# Altium schematic symbol library Schlib.SchLib: 45 symbols
Pins are listed as number, name and electrical type; pins without a type are passive.

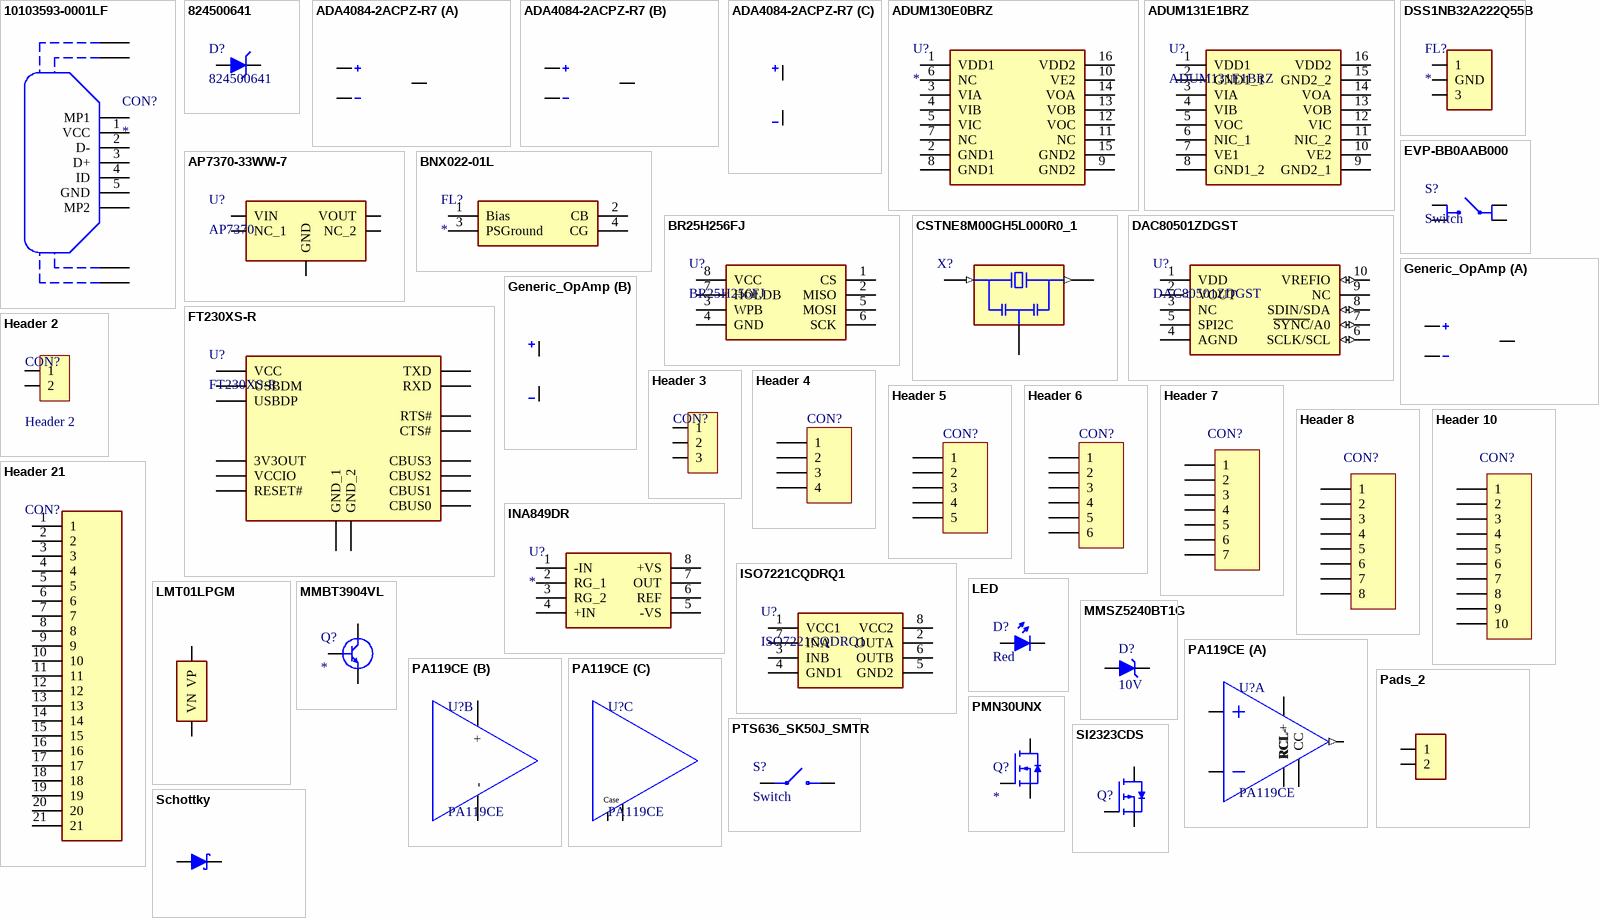
[diagram p0: symbols 10103593-0001LF to SI2323CDS]

## 10103593-0001LF
designator CON?
USB Connector; Manufacturer_Name: Amphenol; MPN: 10103593-0001LF; Datasheet Link: https://4donline.ihs.com/images/VipMasterIC/IC/FRCI/FRCIS73238/FRCIS73238-1.pdf?hkey=6D3A4C79FDBF58556ACFDE234799DDF0; Height: 3.24mm; Mouser Part Number: 649-10103593-0001LF; Mouser Price/Stock: https://www.mouser.co.uk/ProductDetail/Amphenol-FCI/10103593-0001LF/?qs=EnLMdcWnKAAYkpXwqGEfpw%3D%3D
footprint 101035930001LF
pins: 1 VCC, 2 D-, 3 D+, 4 ID, 5 GND, MH1, MH2, MH3, MH4, MP1, MP2

## 824500641
designator D?
TVS Diode; MPN: 824500641
footprint DIOM5127X250N
pins: 1 K, 2 A

## ADA4084-2ACPZ-R7
designator U?, comment ADA4084
Op Amp; MPN: ADA4084-2ACPZ-R7
footprint SON50P300X300X85-9N-D
part A pins: 1 OUT_A, 2 -IN_A, 3 +IN_A
part B pins: 5 +IN_B, 6 -IN_B, 7 OUT_B
part C pins: 4 V-, 8 V+

## ADUM130E0BRZ
designator U?
Digital isolator; MPN: ADUM130E0BRZ
footprint SOIC127P600X175-16N
pins: 1 VDD1, 2 GND1, 3 VIA, 4 VIB, 5 VIC, 6 NC, 7 NC, 8 GND1, 9 GND2, 10 VE2, 11 NC, 12 VOC, 13 VOB, 14 VOA, 15 GND2, 16 VDD2

## ADUM131E1BRZ
designator U?
Digital isolator; MPN: ADUM131E1BRZ
footprint SOIC127P600X175-16N
pins: 1 VDD1, 2 GND1_1, 3 VIA, 4 VIB, 5 VOC, 6 NIC_1, 7 VE1, 8 GND1_2, 9 GND2_1, 10 VE2, 11 NIC_2, 12 VIC, 13 VOB, 14 VOA, 15 GND2_2, 16 VDD2

## AP7370-33WW-7
designator U?, comment AP7370
Volatge Regulator 3V3; Manufacturer_Name: Diodes Inc.; MPN: AP7370-33WW-7; Datasheet Link: https://componentsearchengine.com/Datasheets/1/AP7370-33WW-7.pdf; Height: 1.4mm; Mouser Part Number: 621-AP7370-33WW-7; Mouser Price/Stock: https://www.mouser.co.uk/ProductDetail/Diodes-Incorporated/AP7370-33WW-7?qs=%252B6g0mu59x7LthBU4%252B8t%252BZQ%3D%3D; Arrow Part Number: AP7370-33WW-7; Arrow Price/Stock: https://www.arrow.com/en/products/ap7370-33ww-7/diodes-incorporated
footprint SOT95P285X140-5N
pins: 1 VIN, 2 GND, 3 VOUT, 4 NC_1, 5 NC_2

## BNX022-01L
designator FL?
EMI Filter; MPN: BNX022-01L
footprint BNX02201K
pins: 1 Bias, 2 CB, 3 PSGround, 4 CG

## BR25H256FJ
designator U?
EEPROM; Manufacturer_Name: ROHM Semiconductor; MPN: BR25H256FJ-2ACE2; Datasheet Link: https://ms.componentsearchengine.com/Datasheets/1/BR25H256FJ-2ACE2.pdf; Height: 1.65mm; Mouser Part Number: 755-BR25H256FJ-2ACE2; Mouser Price/Stock: https://www.mouser.co.uk/ProductDetail/ROHM-Semiconductor/BR25H256FJ-2ACE2?qs=zGux8KhMp6KpbA8DPfpjPg%3D%3D
footprint SOIC127P600X165-8N
pins: 1 CS, 2 MISO, 3 WPB, 4 GND, 5 MOSI, 6 SCK, 7 HOLDB, 8 VCC

## CSTNE8M00GH5L000R0_1
designator X?  (value not drawn)
8MHz Ceramic Resonator; MPN: CSTNE8M00GH5L000R0; MF: Murata Electronics; Value: 8MHz; Package: None
footprint OSC_CSTNE8M00GH5L000R0
pins: 1 IN (in), 2 GND (power), 3 OUT (out)

## DAC80501ZDGST
designator U?
DAC; Resolution: 16bit; MPN: DAC80501ZDGST
footprint SOP50P490X110-10N
pins: 1 VDD (power), 2 VOUT (out), 3 NC, 4 AGND (power), 5 SPI2C, 6 SCLK/SCL (io), 7 ~{SYNC}/A0 (io), 8 SDIN/SDA (io), 9 NC, 10 VREFIO (io)

## DSS1NB32A222Q55B
designator FL?
EMIFilter; MPN: DSS1NB32A222Q55B
footprint DSS1NB32A223Q91A
pins: 1, 2 GND, 3

## EVP-BB0AAB000
designator S?, comment Switch
MPN: EVP-BB0AAB000
footprint EVPBB0AAB000
pins: A1 NO_1, A2 NO_2, B1 COM_1, B2 COM_2

## FT230XS-R
designator U?
USB converter; Manufacturer_Name: FTDI Chip; Datasheet Link: http://www.ftdichip.com/Support/Documents/DataSheets/ICs/DS_FT230X.pdf; Height: 1.753mm; MPN: FT230XS-R; Mouser Part Number: 895-FT230XS-R; Mouser Price/Stock: https://www.mouser.co.uk/ProductDetail/FTDI/FT230XS-R?qs=Gp1Yz1mis3XyCLeYOseSng%3D%3D; Arrow Part Number: FT230XS-R; Arrow Price/Stock: http://www.arrow.com/en/products/ft230xs-r/ftdi-chip
footprint SOP64P599X175-16N
pins: 1 TXD, 2 RTS#, 3 VCCIO, 4 RXD, 5 GND_1, 6 CTS#, 7 CBUS2, 8 USBDP, 9 USBDM, 10 3V3OUT, 11 RESET#, 12 VCC, 13 GND_2, 14 CBUS1, 15 CBUS0, 16 CBUS3

## Generic_OpAmp
designator U?  (value not drawn)
Generic operational amplifier with supply voltage; Value: *; HelpURL: *; MPN: *
part A pins: 1 OUT_A, 2 -IN_A, 3 +IN_A
part B pins: 4 V-, 5 V+

## Header 2
designator CON?
Header, 2-Pin
pins: 1, 2

## Header 3
designator CON?  (value not drawn)
Header, 3-Pin; MPN: *
footprint HDR_1X3_2.54 (Header connector 2.54mm)
pins: 1, 2, 3

## Header 4
designator CON?  (value not drawn)
Header, 4-Pin; MPN: *
footprint HDR_1X4_2.54 (Header connector 2.54mm)
pins: 1, 2, 3, 4

## Header 5
designator CON?  (value not drawn)
Header, 5-Pin
pins: 1, 2, 3, 4, 5

## Header 6
designator CON?  (value not drawn)
Header, 6-Pin
pins: 1, 2, 3, 4, 5, 6

## Header 7
designator CON?  (value not drawn)
Header, 7-Pin
pins: 1, 2, 3, 4, 5, 6, 7

## Header 8
designator CON?  (value not drawn)
Header, 8-Pin
pins: 1, 2, 3, 4, 5, 6, 7, 8

## Header 10
designator CON?  (value not drawn)
Header, 10-Pin
pins: 1, 2, 3, 4, 5, 6, 7, 8, 9, 10

## Header 21
designator CON?  (value not drawn)
Header, 21-Pin; Manufacturer_Name: Amphenol; MPN: 68001-121HLF; Datasheet Link: http://docs-emea.rs-online.com/webdocs/1450/0900766b81450c45.pdf; Height: 8.58mm; Mouser Part Number: 649-68001-121HLF; Mouser Price/Stock: https://www.mouser.co.uk/ProductDetail/Amphenol-FCI/68001-121HLF/?qs=QKvFUfBIyQK%252BoxmWjqVzjQ%3D%3D; Arrow Part Number: 68001-121HLF; Arrow Price/Stock: https://www.arrow.com/en/products/68001-121hlf/amphenol-fci
footprint HDR_1X21_2.54 (Header connector 2.54mm)
pins: 1, 2, 3, 4, 5, 6, 7, 8, 9, 10, 11, 12, 13, 14, 15, 16, 17, 18, 19, 20, 21

## INA849DR
designator U?
Instrumental Amplifier; MPN: INA849DR
footprint SOIC127P600X175-8N
pins: 1 -IN, 2 RG_1, 3 RG_2, 4 +IN, 5 -VS, 6 REF, 7 OUT, 8 +VS

## ISO7221CQDRQ1
designator U?
Digital Isolator; MPN: ISO7221CQDRQ1
footprint SOIC127P600X175-8N (Footprint not found)
pins: 1 VCC1, 2 OUTA, 3 INB, 4 GND1, 5 GND2, 6 OUTB, 7 INA, 8 VCC2

## LED
designator D?, comment Red
LED; Colour: Red; MPN: *
footprint LED_0805 (LED diode, 0805, 599 Series)
footprint LED_0805_OUTLINE (LED diode, 0805, 599 Series)
pins: A, K

## LMT01LPGM
designator U?, comment Temp sensor
Temperature sensor, Pulse Train Interface; MPN: LMT01LPGM
footprint TO-92S (TI 2 Pin temp sensor)
pins: 1 VN, 2 VP

## MMBT3904VL
designator Q?
Transistor BJT NPN; MPN: MMBT3904VL
footprint SOT95P230X110-3N
pins: 1 B, 2 E, 3 C

## MMSZ5240BT1G
designator D?  Zener volatge: 10V  (hidden comment: *)
Zener Diode; MPN: MMSZ5240BT1G
footprint SOD3716X135N
pins: 1 K, 2 A

## PA119CE
designator U?
Op Amp; MPN: PA119CE
footprint PA119CE
part A pins: 1 OUT (out), 2 RCL+, 4 +IN, 5 -IN, 7 RCL-, 8 CC
part B pins: 3 +, 6 -
part C pins: MH1, MH2
part C text: Case

## Pads_2
designator PAD?  (no BOM)
2 Pads
footprint Pads_2 (2 Pads, hole 2mm)
pins: 1, 2

## PMN30UNX
designator Q?
Transistor MOSFET N-Channel; MPN: PMN30UNX
footprint SOT95P275X110-6N
pins: 1 D, 3 G, 4 S

## PTS636_SK50J_SMTR
designator S?, comment Switch
Manufacturer_Name: C & K COMPONENTS; MPN: PTS636 SK50J SMTR LFS; Datasheet Link: https://dznh3ojzb2azq.cloudfront.net/products/Tactile/PTS636/documents/datasheet.pdf; Height: 5mm; Mouser Part Number: 611-PTS636SK50JSMTRL; Mouser Price/Stock: https://www.mouser.co.uk/ProductDetail/CK/PTS636-SK50J-SMTR-LFS?qs=vLWxofP3U2y%2F9cEgatLecw%3D%3D
footprint PTS636SK50JSMTRLFS
pins: 1 COM, 2 NO

## Schottky
designator D?
Schottky diode; MPN: *
footprint SOD-123FL (Package 3.6x1.6)
pins: A, K

## SI2323CDS
designator Q?  (value not drawn)
P-MOSFET; MPN: SI2323CDS-T1-GE3
footprint SOT95P237X112-3N
pins: 1 G, 2 S, 3 D

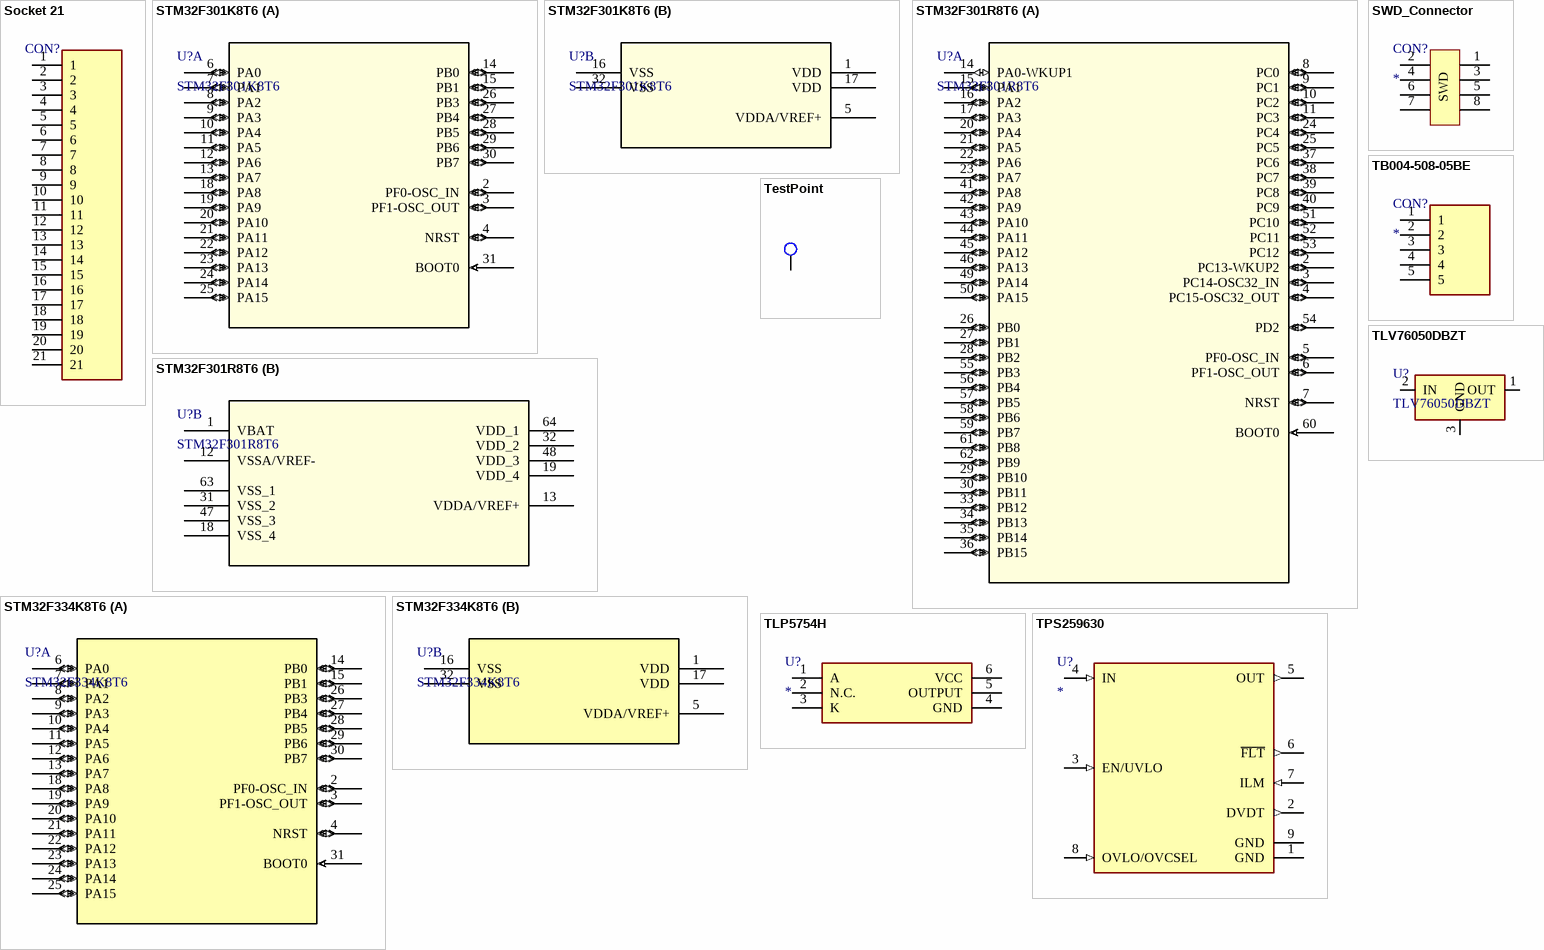
[diagram p1: symbols Socket 21 to TPS259630]

## Socket 21
designator CON?  (value not drawn)  (no BOM)
Socket, 21-Pin
footprint SOCKET_1X21_2.54 (Socket connector 2.54mm)
pins: 1, 2, 3, 4, 5, 6, 7, 8, 9, 10, 11, 12, 13, 14, 15, 16, 17, 18, 19, 20, 21

## STM32F301K8T6
designator U?
MCU; Vendor: STMicroelectronics; Built_By: EMA_UL_Team; SourceLibrary: Updates_to_database_2020-10-19; Manufacturer_Part_Number: STM32F301K8T6; Copyright: Copyright (C) 2018 Accelerated Designs. All rights reserved; RefDes: RefDes; Type: DEV
footprint LQFP-32
part A pins: 2 PF0-OSC_IN (io), 3 PF1-OSC_OUT (io), 4 NRST (io), 6 PA0 (io), 7 PA1 (io), 8 PA2 (io), 9 PA3 (io), 10 PA4 (io), 11 PA5 (io), 12 PA6 (io), 13 PA7 (io), 14 PB0 (io), 15 PB1 (io), 18 PA8 (io), 19 PA9 (io), 20 PA10 (io), 21 PA11 (io), 22 PA12 (io), 23 PA13 (io), 24 PA14 (io), 25 PA15 (io), 26 PB3 (io), 27 PB4 (io), 28 PB5 (io), 29 PB6 (io), 30 PB7 (io), 31 BOOT0 (in)
part B pins: 1 VDD (power), 5 VDDA/VREF+ (power), 16 VSS (power), 17 VDD (power), 32 VSS (power)

## STM32F301R8T6
designator U?
MCU LQFP64; Vendor: STMicroelectronics; Built_By: EMA_UL_Team; SourceLibrary: Updates_to_database_2020-10-19; MPN: STM32F301R8T6; Copyright: Copyright (C) 2018 Accelerated Designs. All rights reserved; RefDes: RefDes; Type: DEV
footprint LQFP64-10x10mm
part A pins: 2 PC13-WKUP2 (io), 3 PC14-OSC32_IN (io), 4 PC15-OSC32_OUT (io), 5 PF0-OSC_IN (io), 6 PF1-OSC_OUT (io), 7 NRST (io), 8 PC0 (io), 9 PC1 (io), 10 PC2 (io), 11 PC3 (io), 14 PA0-WKUP1 (io), 15 PA1 (io), 16 PA2 (io), 17 PA3 (io), 20 PA4 (io), 21 PA5 (io), 22 PA6 (io), 23 PA7 (io), 24 PC4 (io), 25 PC5 (io), 26 PB0 (io), 27 PB1 (io), 28 PB2 (io), 29 PB10 (io), 30 PB11 (io), 33 PB12 (io), 34 PB13 (io), 35 PB14 (io), 36 PB15 (io), 37 PC6 (io), 38 PC7 (io), 39 PC8 (io), 40 PC9 (io), 41 PA8 (io), 42 PA9 (io), 43 PA10 (io), 44 PA11 (io), 45 PA12 (io), 46 PA13 (io), 49 PA14 (io), 50 PA15 (io), 51 PC10 (io), 52 PC11 (io), 53 PC12 (io), 54 PD2 (io), 55 PB3 (io), 56 PB4 (io), 57 PB5 (io), 58 PB6 (io), 59 PB7 (io), 60 BOOT0 (in), 61 PB8 (io), 62 PB9 (io)
part B pins: 1 VBAT (power), 12 VSSA/VREF- (power), 13 VDDA/VREF+ (power), 18 VSS_4 (power), 19 VDD_4 (power), 31 VSS_2 (power), 32 VDD_2 (power), 47 VSS_3 (power), 48 VDD_3 (power), 63 VSS_1 (power), 64 VDD_1 (power)

## STM32F334K8T6
designator U?
MCU; Vendor: STMicroelectronics; Built_By: EMA_UL_Team; SourceLibrary: Updates_to_database_2020-10-19; Manufacturer_Part_Number: STM32F334K8T6; Copyright: Copyright (C) 2018 Accelerated Designs. All rights reserved; RefDes: RefDes; Type: DEV
footprint LQFP-32
part A pins: 2 PF0-OSC_IN (io), 3 PF1-OSC_OUT (io), 4 NRST (io), 6 PA0 (io), 7 PA1 (io), 8 PA2 (io), 9 PA3 (io), 10 PA4 (io), 11 PA5 (io), 12 PA6 (io), 13 PA7 (io), 14 PB0 (io), 15 PB1 (io), 18 PA8 (io), 19 PA9 (io), 20 PA10 (io), 21 PA11 (io), 22 PA12 (io), 23 PA13 (io), 24 PA14 (io), 25 PA15 (io), 26 PB3 (io), 27 PB4 (io), 28 PB5 (io), 29 PB6 (io), 30 PB7 (io), 31 BOOT0 (in)
part B pins: 1 VDD (power), 5 VDDA/VREF+ (power), 16 VSS (power), 17 VDD (power), 32 VSS (power)

## SWD_Connector
designator CON?
Connector; MPN: 5055680671
footprint MicroLock_6p_vert (MOLEX Micro-Lock Plus 1.25mm 6pin Vertical)
pins: 1 4, 2 1, 3 5, 4 2, 5 6, 6 3, 7, 8
text: SWD

## TB004-508-05BE
designator CON?
Terminal Block Screw; MPN: TB004-508-05BE
footprint TB00450805BE
pins: 1, 2, 3, 4, 5

## TestPoint
designator TP?  (no BOM)
Test point; Value: *; HelpURL: *; MPN: *
footprint TP_RO25 (Testpoint round 25mil)
footprint TP_RO40 (Testpoint round 40mil)
footprint TP_SQ25 (Testpoint square 25x25mil)
footprint TP_SQ40 (Testpoint square 40x40mil)
footprint TP_SQ25x40 (Testpoint square 25x40mil)
pins: 1

## TLP5754H
designator U?
Optocoupler; MPN: TLP5754H(TP4,E
footprint SOIC127P1000X230-6N
pins: 1 A, 2 N.C., 3 K, 4 GND, 5 OUTPUT, 6 VCC

## TLV76050DBZT
designator U?
Voltage Regulator 5V; MPN: TLV76050DBZT
footprint SOT95P237X112-3N
pins: 1 OUT (power), 2 IN (power), 3 GND (power)

## TPS259630
designator U?
eFuse; MPN: TPS259630DDAR
footprint SOIC127P600X170-9N
pins: 1 GND (power), 2 DVDT (out), 3 EN/UVLO (in), 4 IN (in), 5 OUT (out), 6 ~{FLT} (out), 7 ILM (in), 8 OVLO/OVCSEL (in), 9 GND (power)